# Altium schematic symbol library RVAR-SMD.SchLib: 1 symbol
Pins are listed as number, name and electrical type; pins without a type are passive.

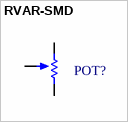
[diagram p0: symbol RVAR-SMD]

## RVAR-SMD
designator POT?  (value not drawn)
pins: 1 TOP, 2 BOT, 3 TAP
1 alternate drawing of the same symbol